# Altium schematic symbol library 1923ВК014.SchLib: 1 symbol
Pins are listed as number, name and electrical type; pins without a type are passive.

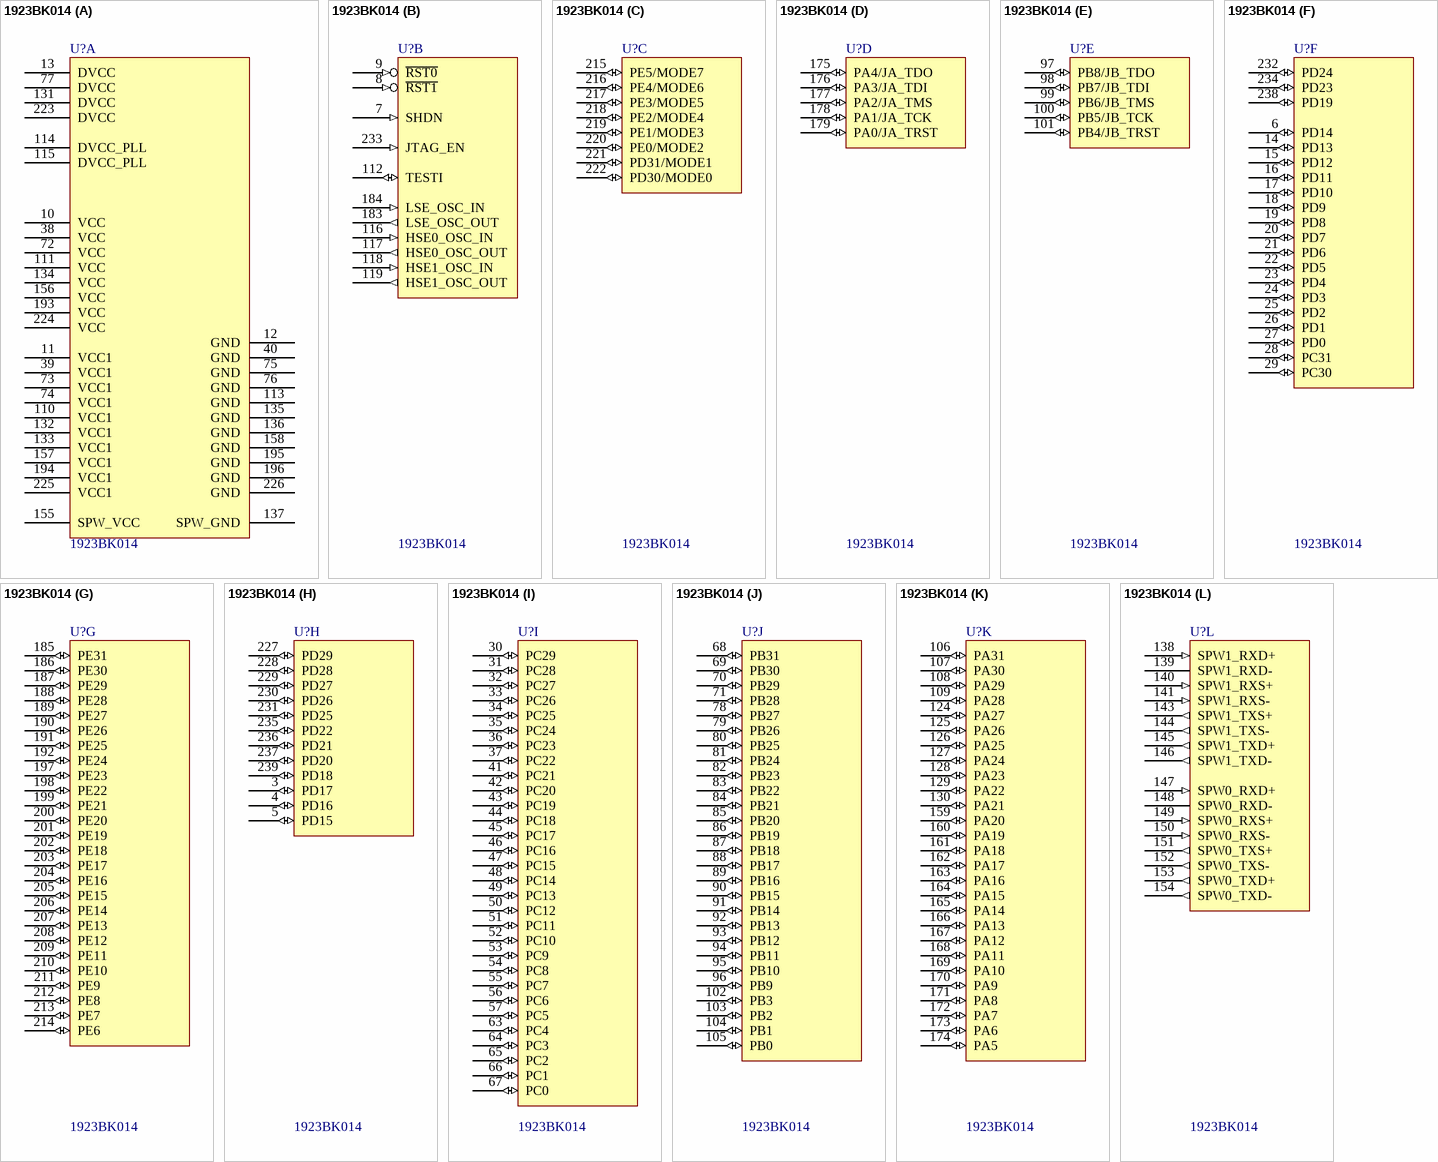
[diagram p0: symbol 1923BK014]

## 1923BK014
designator U?
ARM32 Microcontroller; Наименование: 1923ВК014; Назначение: АРМ микроконтроллер; ComponentLink1Description: DataSheet; ComponentLink1URL: https://ic.milandr.ru/upload/iblock/62c/62ca58d6ede1a3e06d56be1e19dbdbc8.pdf; ComponentLink2Description: Errata; ComponentLink2URL: https://ic.milandr.ru/upload/iblock/379/379105061a67e6dd9373b458eff4ec3a.pdf; Потребление, Вт: *
footprint 4245.240-6.01
part A pins: 10 VCC (power), 11 VCC1 (power), 12 GND (power), 13 DVCC (power), 38 VCC (power), 39 VCC1 (power), 40 GND (power), 72 VCC (power), 73 VCC1 (power), 74 VCC1 (power), 75 GND (power), 76 GND (power), 77 DVCC (power), 110 VCC1 (power), 111 VCC (power), 113 GND (power), 114 DVCC_PLL (power), 115 DVCC_PLL (power), 131 DVCC (power), 132 VCC1 (power), 133 VCC1 (power), 134 VCC (power), 135 GND (power), 136 GND (power), 137 SPW_GND (power), 155 SPW_VCC (power), 156 VCC (power), 157 VCC1 (power), 158 GND (power), 193 VCC (power), 194 VCC1 (power), 195 GND (power), 196 GND (power), 223 DVCC (power), 224 VCC (power), 225 VCC1 (power), 226 GND (power)
part B pins: 7 SHDN (in), 8 ~{RST1} (in), 9 ~{RST0} (in), 112 TESTI (io), 116 HSE0_OSC_IN (in), 117 HSE0_OSC_OUT (out), 118 HSE1_OSC_IN (in), 119 HSE1_OSC_OUT (out), 183 LSE_OSC_OUT (out), 184 LSE_OSC_IN (in), 233 JTAG_EN (in)
part C pins: 215 PE5/MODE7 (io), 216 PE4/MODE6 (io), 217 PE3/MODE5 (io), 218 PE2/MODE4 (io), 219 PE1/MODE3 (io), 220 PE0/MODE2 (io), 221 PD31/MODE1 (io), 222 PD30/MODE0 (io)
part D pins: 175 PA4/JA_TDO (io), 176 PA3/JA_TDI (io), 177 PA2/JA_TMS (io), 178 PA1/JA_TCK (io), 179 PA0/JA_TRST (io)
part E pins: 97 PB8/JB_TDO (io), 98 PB7/JB_TDI (io), 99 PB6/JB_TMS (io), 100 PB5/JB_TCK (io), 101 PB4/JB_TRST (io)
part F pins: 6 PD14 (io), 14 PD13 (io), 15 PD12 (io), 16 PD11 (io), 17 PD10 (io), 18 PD9 (io), 19 PD8 (io), 20 PD7 (io), 21 PD6 (io), 22 PD5 (io), 23 PD4 (io), 24 PD3 (io), 25 PD2 (io), 26 PD1 (io), 27 PD0 (io), 28 PC31 (io), 29 PC30 (io), 232 PD24 (io), 234 PD23 (io), 238 PD19 (io)
part G pins: 185 PE31 (io), 186 PE30 (io), 187 PE29 (io), 188 PE28 (io), 189 PE27 (io), 190 PE26 (io), 191 PE25 (io), 192 PE24 (io), 197 PE23 (io), 198 PE22 (io), 199 PE21 (io), 200 PE20 (io), 201 PE19 (io), 202 PE18 (io), 203 PE17 (io), 204 PE16 (io), 205 PE15 (io), 206 PE14 (io), 207 PE13 (io), 208 PE12 (io), 209 PE11 (io), 210 PE10 (io), 211 PE9 (io), 212 PE8 (io), 213 PE7 (io), 214 PE6 (io)
part H pins: 3 PD17 (io), 4 PD16 (io), 5 PD15 (io), 227 PD29 (io), 228 PD28 (io), 229 PD27 (io), 230 PD26 (io), 231 PD25 (io), 235 PD22 (io), 236 PD21 (io), 237 PD20 (io), 239 PD18 (io)
part I pins: 30 PC29 (io), 31 PC28 (io), 32 PC27 (io), 33 PC26 (io), 34 PC25 (io), 35 PC24 (io), 36 PC23 (io), 37 PC22 (io), 41 PC21 (io), 42 PC20 (io), 43 PC19 (io), 44 PC18 (io), 45 PC17 (io), 46 PC16 (io), 47 PC15 (io), 48 PC14 (io), 49 PC13 (io), 50 PC12 (io), 51 PC11 (io), 52 PC10 (io), 53 PC9 (io), 54 PC8 (io), 55 PC7 (io), 56 PC6 (io), 57 PC5 (io), 63 PC4 (io), 64 PC3 (io), 65 PC2 (io), 66 PC1 (io), 67 PC0 (io)
part J pins: 68 PB31 (io), 69 PB30 (io), 70 PB29 (io), 71 PB28 (io), 78 PB27 (io), 79 PB26 (io), 80 PB25 (io), 81 PB24 (io), 82 PB23 (io), 83 PB22 (io), 84 PB21 (io), 85 PB20 (io), 86 PB19 (io), 87 PB18 (io), 88 PB17 (io), 89 PB16 (io), 90 PB15 (io), 91 PB14 (io), 92 PB13 (io), 93 PB12 (io), 94 PB11 (io), 95 PB10 (io), 96 PB9 (io), 102 PB3 (io), 103 PB2 (io), 104 PB1 (io), 105 PB0 (io)
part K pins: 106 PA31 (io), 107 PA30 (io), 108 PA29 (io), 109 PA28 (io), 124 PA27 (io), 125 PA26 (io), 126 PA25 (io), 127 PA24 (io), 128 PA23 (io), 129 PA22 (io), 130 PA21 (io), 159 PA20 (io), 160 PA19 (io), 161 PA18 (io), 162 PA17 (io), 163 PA16 (io), 164 PA15 (io), 165 PA14 (io), 166 PA13 (io), 167 PA12 (io), 168 PA11 (io), 169 PA10 (io), 170 PA9 (io), 171 PA8 (io), 172 PA7 (io), 173 PA6 (io), 174 PA5 (io)
part L pins: 138 SPW1_RXD+ (in), 139 SPW1_RXD-, 140 SPW1_RXS+ (in), 141 SPW1_RXS- (in), 143 SPW1_TXS+ (out), 144 SPW1_TXS- (out), 145 SPW1_TXD+ (out), 146 SPW1_TXD- (out), 147 SPW0_RXD+ (in), 148 SPW0_RXD-, 149 SPW0_RXS+ (in), 150 SPW0_RXS- (in), 151 SPW0_TXS+ (out), 152 SPW0_TXS- (out), 153 SPW0_TXD+ (out), 154 SPW0_TXD- (out)
2 alternate drawings of the same symbol